# Altium schematic symbol library Sound Microphone.SchLib: 1 symbol
Pins are listed as number, name and electrical type; pins without a type are passive.

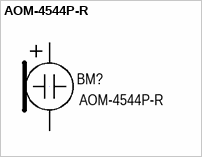
[diagram p0: symbol AOM-4544P-R]

## AOM-4544P-R
designator BM?
Microphone electret d9.4x6.7 TH; Manufacturer: PUI Audio; Component: Audio Microphone; Group: Signal; Voltage supply: 3V - 10V; Sensitivity: -44dB; Current supply: 0.5mA; Impedance: 2.2kOhms; Package: D9.7x6.7; Part name: AOM-4544P-R; Operating temperature: -20°C +70°C; Mounting type: Through hole; Dimension: 9.70mm x 9.70mm; Height: 6.70mm; Type: Electret condenser
footprint MICE-D9.7x4.5N (Mcrophone electret d9.7x4.5mm)
pins: 1 +, 2 -